# Altium schematic symbol library Switches.SchLib: 5 symbols
Pins are listed as number, name and electrical type; pins without a type are passive.

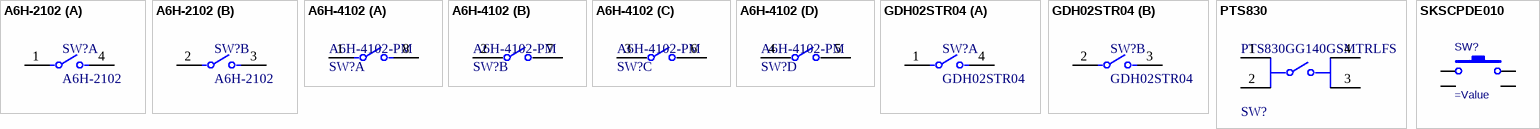
[diagram p0: symbols A6H-2102 to SKSCPDE010]

## A6H-2102
designator SW?
No Description Available; Mfr_Name: Omron; Copyright: Copyright (C) 2022 Ultra Librarian. All rights reserved.; Manufacturer_Part_Number: A6H-2102; RefDes: RefDes; Type: DEV; Full Part Number: A6H-2102; Value: A6H-2102
footprint A6H-2101
part A pins: 1, 4
part B pins: 2, 3

## A6H-4102
designator SW?, comment A6H-4102-PM
SWITCH SLIDE DIP SPST 25MA 24V; Pitch: 0.05inch; Life (Cycles): 1000Cycles; Actuator Type: Slide (Standard); Washable: Yes; Number of Positions: 4; Throw Configuration: SPST; Max Current Rating: 25mA; RoHS Compliant: Yes; Orientation: Straight; Max Operating Temperature: 70°C; Electrical Life: 1000Cycles; Mount: Surface Mount; Min Operating Temperature: -20°C; Terminal Pitch: 1.27mm; Mechanical Life: 1000Cycles; Packaging: Tape and Reel; Voltage Rating (DC): 24V; Termination: Gull Wing; Current Rating: 25mA; Length: 0.248inch; Case/Package: DIP
footprint A6H-4102
part A pins: 1, 8
part B pins: 2, 7
part C pins: 3, 6
part D pins: 4, 5

## GDH02STR04
designator SW?
No Description Available; Mfr_Name: TE Connectivity; Copyright: Copyright (C) 2022 Ultra Librarian. All rights reserved.; Manufacturer_Part_Number: GDH02STR04; RefDes: RefDes; Type: DEV; Full Part Number: GDH02STR04
footprint GDH02STR04 (Dip switch 2pos LP)
part A pins: 1, 4
part B pins: 2, 3

## PTS830
designator SW?, comment PTS830GG140GSMTRLFS
SWITCH TACTILE SPST-NO 0.05A 12V; Manufacturer: C&K Components; Operating Force: 160gf; Throw Configuration: SPST; Contact Current Rating: 50mA; Electromechanical Life: 500000Cycles; Contact Resistance: 100mΩ; Device Class L3: Tactile Switches; RoHS: TRUE; Mount: Surface Mount; Full Part Number: PTS830GG140GSMTRLFS; Automotive: No; Temperature Range High: +85°C; Lead Free: Yes; Temperature: -40°C to +85°C; ComponentLink2Description: Datasheet; ComponentLink2URL: https://www.ckswitches.com/products/tactile/PTS830/PTS830GM140SMTRLFS; Device Class L1: Electromechanical; Device Class L2: Switches; Temperature Range Low: -40°C; Voltage Rating Dc: 12V; Height: 1.5mm; Package: 0; Octopart: https://octopart.com/pts830gm140smtrlfs-c%26k+components-82289791; Digikey Description: SWITCH TACTILE SPST-NO 0.05A 12V; Category: Switch
footprint FP-PTS830GM140SMTRLFS-MFG
pins: 1, 2, 3, 4

## SKSCPDE010
designator SW?
TACT SW SKSCPDE010; Published: 17-Dec-2003; DatasheetDocument: 09-May-2002; Publisher: Altium Limited; ComponentLink1Description: Manufacturer Link; ComponentLink1URL: http://domino.kycon.com/internet/Products.html; Full Part Number: SKSCPDE010
footprint SKSCPDE010
pins: 1 (power), 2 (power), 3 (power), 4 (power)